# Altium footprint library all_kalex_Library.PcbLib: 234 footprints (part 10 of 15)
Each footprint in its own frame and in the unit in brackets; x right, y up, seen from the top. Pads: shape width x height; smd on the part's side, far side on the other; paste and mask are expansions set on the pad; w line width, h text height; cw(c..) or ccw(c..) is an arc to the next point about the centre after c.
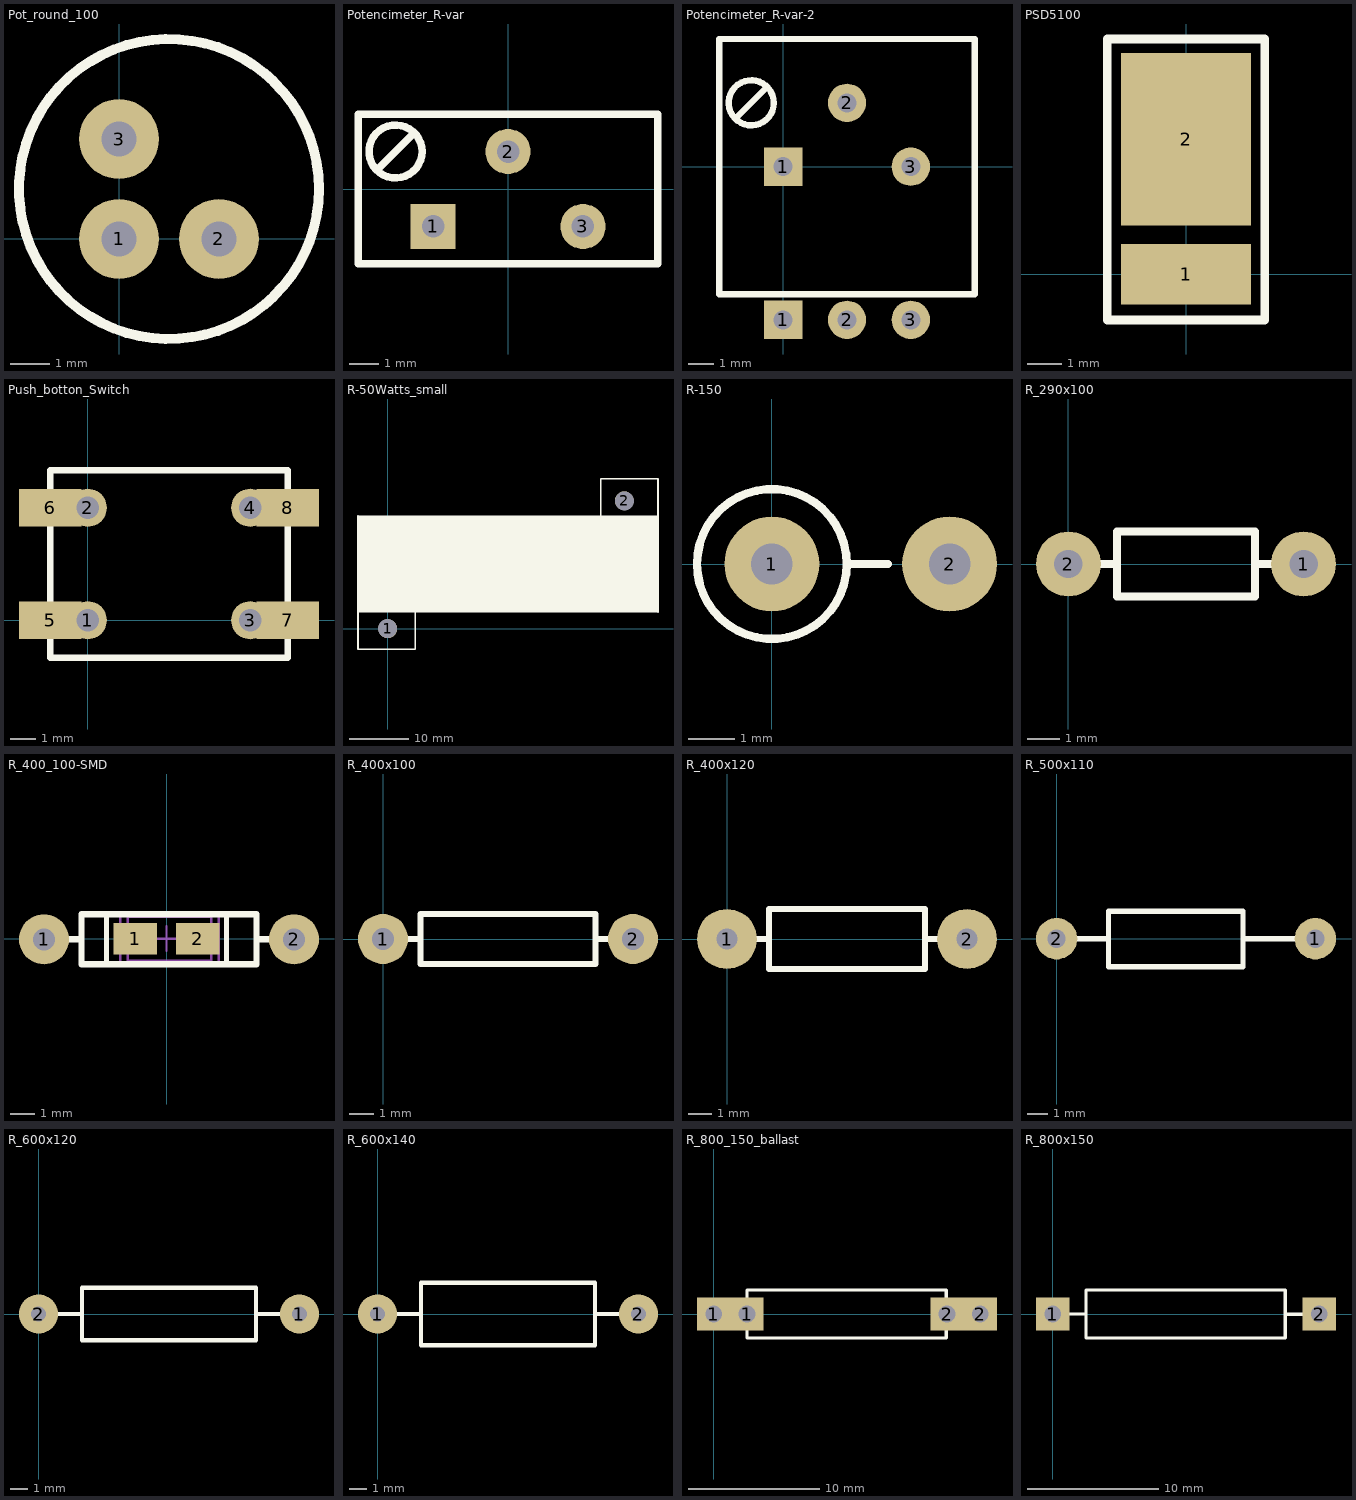
[diagram p9: the footprints below, top view; thin cyan lines are the x and y axes]

## Pot_round_100 [mil]
pads (3):
  round 80 hole 35: 1(0,0) 2(100,0) 3(0,100)
Top Overlay:
  circle w10: c50,50 r150.33

## Potencimeter_R-var [mil]
pads (3):
  rect 60x60 hole 30: 1(-100,-50)
  round 60 hole 30: 2(0,50) 3(100,-50)
Top Overlay:
  circle w10: c-150,50 r35.36
  lines w10: -175,25 -125,75 ; -200,-100 -200,100 200,100 200,0 200,-100 -200,-100

## Potencimeter_R-var-2 [mil]
pads (6):
  rect 60x60 hole 30: 1(0,-240) 1(0,0)
  round 60 hole 30: 2(100,-240) 2(100,100) 3(200,-240) 3(200,0)
Top Overlay:
  circle w10: c-50,100 r35.36
  lines w10: -75,75 -25,125 ; -100,-200 300,-200 300,50 300,200 -100,200 -100,-200

## PSD5100 [mil]
pads (2):
  rect 150x70 smd: 1(0,0)
  rect 150x200 smd: 2(0,156)
Top Overlay:
  lines w10: -91,-53 -91,272 91,272 91,-53 -91,-53
3D body: height 79.92, standoff 0, extent -84,-19.25 83,243.25

## Push_botton_Switch [mm]
pads (8):
  round 1.524 hole 0.889: 1(0,0) 2(0,4.5) 3(6.5,0) 4(6.5,4.5)
  rect 2.5x1.5 all layers, no hole: 5(-1.5,0) 6(-1.5,4.5) 7(8,0) 8(8,4.5)
Top Overlay:
  lines w0.254: -1.5,-1.5 -1.5,6 8,6 8,-1.5 -1.5,-1.5

## R-50Watts_small [mil]
pads (2):
  round 125 hole 125 unplated: 1(0,0) 2(1562,844)
Top Overlay:
  rectangle: -196,107 1784,747
  lines w10: -196,747 -196,-137 183,-137 183,107 ; 1405,747 1405,991 1784,991 1784,107

## R-150 [mil] "Vertical position"
pads (2):
  round 80 hole 35: 1(0,0) 2(150,0)
Top Overlay:
  circle w7: c0,0 r63.25
  lines w7: 63.25,0 98,0

## R_290x100 [mil] "Resistor"
pads (2):
  round 80 hole 35: 1(290,0) 2(0,0)
Top Overlay:
  lines w10: 0,0 60,0 ; 230,0 290,0 ; 60,-40 230,-40 230,40 60,40 60,-40

## R_400_100-SMD [mil]
pads (4):
  round 80 hole 35: 1(-196,-1) 2(204,-1)
  rect 70x50 smd: 1(-50,0) 2(50,0)
Top Layer:
  lines w20: -51,-1 -50,0 ; 203,0 204,-1
Top Overlay:
  lines w8: -96,-40 96,-40 96,40 -96,40 -96,-40
  lines w10: -196,-1 -136,-1 ; 144,-1 204,-1 ; -136,-1 -136,-41 144,-41 144,39 -136,39 -136,-1
Mechanical 13:
  lines w3.94: -61.93,-35.43 -61.93,35.43 71.93,35.43 71.93,-35.43 -61.93,-35.43
Mechanical 15:
  lines w3.94: -20,0 19.37,0 ; 0,-19.69 0,19.68 ; -73.74,-37.4 -73.74,37.4 83.74,37.4 83.74,-37.4 -73.74,-37.4
3D body: height 51.18, standoff 0, extent -66.93,-35.43 66.93,35.43

## R_400x100 [mil]
pads (2):
  round 80 hole 35: 1(0,0) 2(400,0)
Top Overlay:
  lines w10: 0,0 60,0 ; 340,0 400,0 ; 60,0 60,40 340,40 340,-40 60,-40 60,0

## R_400x120 [mil]
pads (2):
  round 100 hole 35: 1(0,0) 2(400,0)
Top Overlay:
  lines w10: 0,0 70,0 ; 330,0 400,0 ; 70,-50 330,-50 330,50 70,50 70,-50

## R_500x110 [mil]
pads (2):
  round 80 hole 35: 1(500,0) 2(0,0)
Top Overlay:
  lines w10: 0,0 100,0 ; 360,0 500,0 ; 100,-54 360,-54 360,53 100,53 100,-54

## R_600x120 [mil]
pads (2):
  round 90 hole 35: 1(600,0) 2(0,0)
Top Overlay:
  lines w10: 0,0 100,0 ; 500,0 600,0 ; 100,0 100,60 500,60 500,-60 100,-60 100,0

## R_600x140 [mil]
pads (2):
  round 90 hole 35: 1(0,0) 2(600,0)
Top Overlay:
  lines w10: 0,0 100,0 ; 500,0 600,0 ; 100,0 100,72 500,72 500,-72 100,-72 100,0

## R_800_150_ballast [mil]
pads (4):
  rect 100x100 hole 50: 1(0,0) 1(100,0) 2(700,0) 2(800,0)
Top Overlay:
  lines w10: 0,0 100,0 ; 698,-1 798,-1 ; 100,0 100,-72 698,-72 698,72 100,72 100,0

## R_800x150 [mil]
pads (2):
  rect 100x100 hole 50: 1(0,0) 2(800,0)
Top Overlay:
  lines w10: 0,0 100,0 ; 698,-1 798,-1 ; 100,0 100,72 698,72 698,-72 100,-72 100,0